# Altium footprint library TO-247-220Rad.PcbLib: 1 footprints
Each footprint in its own frame and in the unit in brackets; x right, y up, seen from the top. Pads: shape width x height; smd on the part's side, far side on the other; paste and mask are expansions set on the pad; w line width, h text height; cw(c..) or ccw(c..) is an arc to the next point about the centre after c.
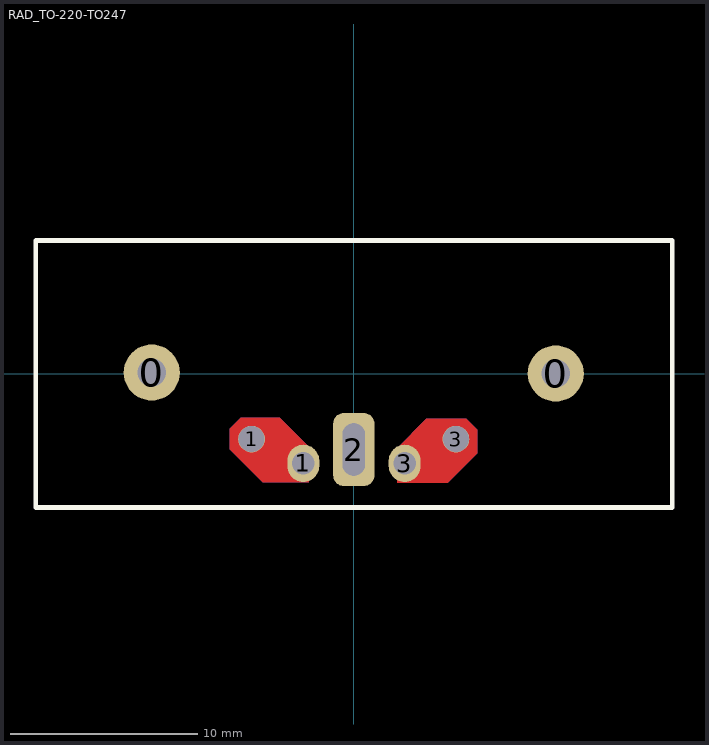
[diagram p0: the footprint, top view; thin cyan lines are the x and y axes]

## RAD_TO-220-TO247 [mm]
pads (7):
  round 3 hole 1.5: 0(-10.795,0.051) 0(10.795,0)
  round 1.425 hole 1.4: 1(-5.461,-3.505) 3(5.461,-3.505)
  oval 1.7x2 hole 1.2: 1(-2.692,-4.8) 3(2.718,-4.8)
  rrect50% 2.2x3.9 hole 1.2 slot 2.8 at 90 deg: 2(0,-4.064)
Top Layer:
  region: 2.311,-5.842 2.311,-3.988 3.886,-2.413 6.02,-2.413 6.604,-2.997 6.604,-4.267 5.029,-5.842
  region: -4.851,-5.816 -6.629,-4.038 -6.629,-2.946 -6.045,-2.362 -3.962,-2.362 -2.413,-3.911 -2.413,-5.816
Bottom Layer:
  region: 2.311,-5.842 2.311,-3.988 3.886,-2.413 6.02,-2.413 6.604,-2.997 6.604,-4.267 5.029,-5.842
  region: -4.851,-5.816 -6.629,-4.038 -6.629,-2.946 -6.045,-2.362 -3.962,-2.362 -2.413,-3.911 -2.413,-5.816
Top Overlay:
  lines w0.254: -16.993,-7.163 17.018,-7.163 17.018,7.112 -16.993,7.112 -16.993,-7.163
3D body "Ебалда.STEP": height 25.75, standoff -10.54, extent -17,-7.188 17,7.188